# EAGLE library part RFM50_STAMP (library ipas)
RFM50 Stamp Board, placed HopeRF's RFM50, Si1000.
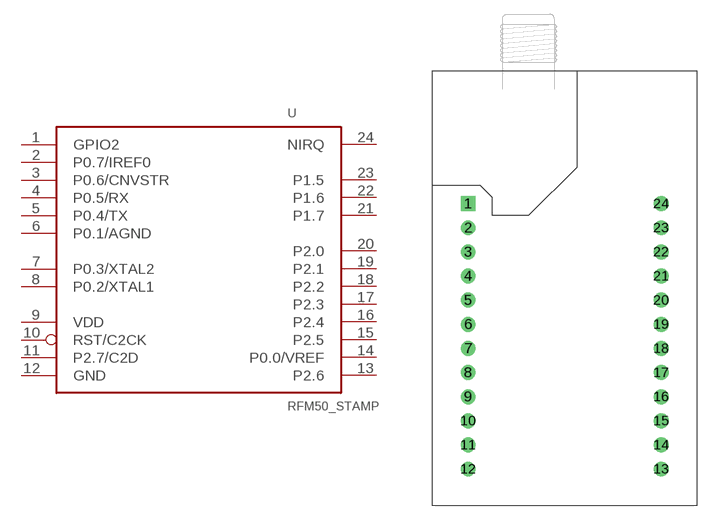
[diagram p20: symbol with the pads of RFM50_STAMP; footprint RFM50_STAMP]

Designator prefix U

## RFM50_STAMP  [RFM50_STAMP]
1  GPIO2
2  P0.7/IREF0
3  P0.6/CNVSTR
4  P0.5/RX
5  P0.4/TX
6  P0.1/AGND
7  P0.3/XTAL2
8  P0.2/XTAL1
9  VDD  pwr
10  RST/C2CK
11  P2.7/C2D
12  GND
13  P2.6
14  P0.0/VREF
15  P2.5
16  P2.4
17  P2.3
18  P2.2
19  P2.1
20  P2.0
21  P1.7
22  P1.6
23  P1.5
24  NIRQ  out

## Footprint RFM50_STAMP (pad centres in mm)
drill 1.016 pad 1.575 square: 1 0,27.94
drill 1.016 pad 1.575: 2 0,25.4; 3 0,22.86; 4 0,20.32; 5 0,17.78; 6 0,15.24; 7 0,12.7; 8 0,10.16; 9 0,7.62; 10 0,5.08; 11 0,2.54; 12 0,0; 13 20.32,0; 14 20.32,2.54; 15 20.32,5.08; 16 20.32,7.62; 17 20.32,10.16; 18 20.32,12.7; 19 20.32,15.24; 20 20.32,17.78; 21 20.32,20.32; 22 20.32,22.86; 23 20.32,25.4; 24 20.32,27.94